# EAGLE library part 79109-14 (library untitled)
RECEPTACAL
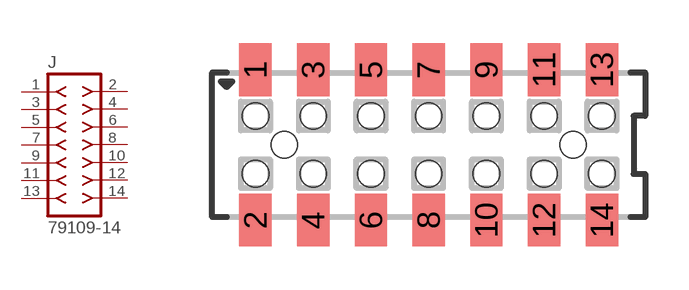
[diagram p164: symbol with the pads of 79109-14; footprint 79109-14]

Designator prefix J

## 79109-14  [79109-14]
1  1  pas
2  2  pas
3  3  pas
4  4  pas
5  5  pas
6  6  pas
7  7  pas
8  8  pas
9  9  pas
10  10  pas
11  11  pas
12  12  pas
13  13  pas
14  14  pas

## Footprint 79109-14 (pad centres in mm)
RECEPTACAL SMD Dual Row, Vertical, Pass-Thru
smd 1.12 x 1.83: 1 -6,2.6; 2 -6,-2.6; 3 -4,2.6; 4 -4,-2.6; 5 -2,2.6; 6 -2,-2.6; 7 0,2.6; 8 0,-2.6; 9 2,2.6; 10 2,-2.6; 11 4,2.6; 12 4,-2.6; 13 6,2.6; 14 6,-2.6
hole 0.914 at -5,0
hole 0.914 at -6,1
hole 0.914 at -6,-1
hole 0.914 at -4,-1
hole 0.914 at -4,1
hole 0.914 at -2,-1
hole 0.914 at -2,1
hole 0.914 at 5,0
hole 0.914 at 0,1
hole 0.914 at 0,-1
hole 0.914 at 2,1
hole 0.914 at 2,-1
hole 0.914 at 4,1
hole 0.914 at 4,-1
hole 0.914 at 6,1
hole 0.914 at 6,-1